# EAGLE library part PAM8908JER (library edrtech_lib)
Audio Amplifiers 25mW STEREO TRUE CAP FREE HEADPHONE AMP Source: Datasheet <https://www.diodes.com/assets/Datasheets/PAM8901_8.pdf>
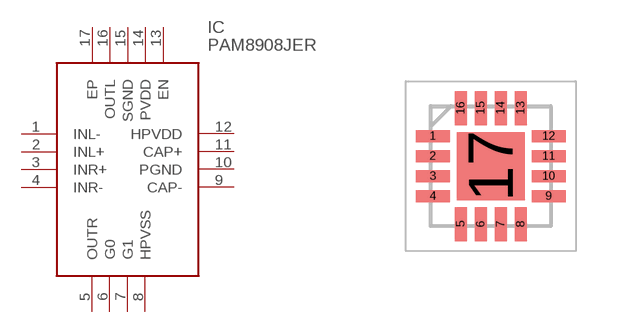
[diagram p21: symbol with the pads of QFN50P300X300X60-17N; footprint QFN50P300X300X60-17N]

Designator prefix IC

## PAM8908JER (ARROW_PART_NUMBER: PAM8908JER; ARROW_PRICE-STOCK: https://www.arrow.com/en/products/pam8908jer/diodes-incorporated?region=asia; DESCRIPTION: Audio Amplifiers 25mW STEREO TRUE CAP FREE HEADPHONE AMP; HEIGHT: 0.6mm; MANUFACTURER_NAME: Diodes Incorporated; MANUFACTURER_PART_NUMBER: PAM8908JER; MOUSER_PART_NUMBER: 621-PAM8908JER; MOUSER_PRICE-STOCK: https://www.mouser.co.uk/ProductDetail/Diodes-Incorporated/PAM8908JER?qs=%252BSlWJf1dfkITtmNpMlm%252Bnw%3D%3D)  [QFN50P300X300X60-17N]
1  INL-
2  INL+
3  INR+
4  INR-
5  OUTR
6  G0
7  G1
8  HPVSS
9  CAP-
10  PGND
11  CAP+
12  HPVDD
13  EN
14  PVDD
15  SGND
16  OUTL
17  EP

## Footprint QFN50P300X300X60-17N (pad centres in mm)
PAM8908JER
smd 0.85 x 0.3: 1 -1.45,0.75; 2 -1.45,0.25; 3 -1.45,-0.25; 4 -1.45,-0.75; 9 1.45,-0.75; 10 1.45,-0.25; 11 1.45,0.25; 12 1.45,0.75
smd 0.3 x 0.85: 5 -0.75,-1.45; 6 -0.25,-1.45; 7 0.25,-1.45; 8 0.75,-1.45; 13 0.75,1.45; 14 0.25,1.45; 15 -0.25,1.45; 16 -0.75,1.45
smd 1.7 x 1.7: 17 0,0